# Altium schematic symbol library ss34v3.SchLib: 1 symbol
Pins are listed as number, name and electrical type; pins without a type are passive.

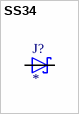
[diagram p0: symbol SS34]

## SS34
designator J?
Diode; Repetitive Reverse Voltage Max, Vrrm: 40V; Forward Current, If(AV): 3A; Forward Surge Current Max, Ifsm: 100A;...; MP: SS34; MF: ON Semiconductor; Package: SMC-2 ON Semiconductor; Availability: Good; Price: None; Purchase-URL: https://pricing.snapeda.com/search/part/SS34/?ref=eda; Check_prices: https://www.snapeda.com/parts/SS34/ON%20Semiconductor/view-part/547583/?ref=eda; SnapEDA_Link: https://www.snapeda.com/parts/SS34/ON%20Semiconductor/view-part/547583/?ref=snap; Value: *
footprint DIOM6859X262N
pins: A, C